# EAGLE library part MEGADRIVE-CART (library megadrive)
Megadrive cartridge interface that fits in a slot
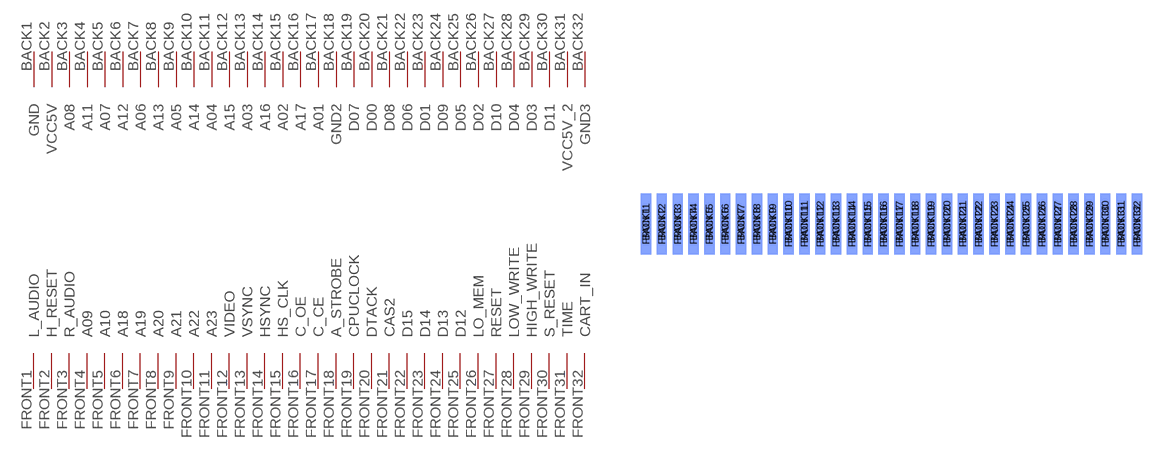
[diagram p0: symbol with the pads of MEGADRIVE-SLOT-PACKAGE; footprint MEGADRIVE-SLOT-PACKAGE]

Designator prefix MD

## MEGADRIVE-CART  [MEGADRIVE-SLOT-PACKAGE]
BACK1  GND
BACK2  VCC5V
BACK3  A08
BACK4  A11
BACK5  A07
BACK6  A12
BACK7  A06
BACK8  A13
BACK9  A05
BACK10  A14
BACK11  A04
BACK12  A15
BACK13  A03
BACK14  A16
BACK15  A02
BACK16  A17
BACK17  A01
BACK18  GND2
BACK19  D07
BACK20  D00
BACK21  D08
BACK22  D06
BACK23  D01
BACK24  D09
BACK25  D05
BACK26  D02
BACK27  D10
BACK28  D04
BACK29  D03
BACK30  D11
BACK31  VCC5V_2
BACK32  GND3
FRONT1  L_AUDIO
FRONT2  H_RESET
FRONT3  R_AUDIO
FRONT4  A09
FRONT5  A10
FRONT6  A18
FRONT7  A19
FRONT8  A20
FRONT9  A21
FRONT10  A22
FRONT11  A23
FRONT12  VIDEO
FRONT13  VSYNC
FRONT14  HSYNC
FRONT15  HS_CLK
FRONT16  C_OE
FRONT17  C_CE
FRONT18  A_STROBE
FRONT19  CPUCLOCK
FRONT20  DTACK
FRONT21  CAS2
FRONT22  D15
FRONT23  D14
FRONT24  D13
FRONT25  D12
FRONT26  LO_MEM
FRONT27  RESET
FRONT28  LOW_WRITE
FRONT29  HIGH_WRITE
FRONT30  S_RESET
FRONT31  TIME
FRONT32  CART_IN

## Footprint MEGADRIVE-SLOT-PACKAGE (pad centres in mm)
PCB connector for the MD cart
smd 1.651 x 9.779 bottom: BACK1 -39.37,5.524; BACK2 -36.83,5.524; BACK3 -34.29,5.524; BACK4 -31.75,5.524; BACK5 -29.21,5.524; BACK6 -26.67,5.524; BACK7 -24.13,5.524; BACK8 -21.59,5.524; BACK9 -19.05,5.524; BACK10 -16.51,5.524; BACK11 -13.97,5.524; BACK12 -11.43,5.524; BACK13 -8.89,5.524; BACK14 -6.35,5.524; BACK15 -3.81,5.524; BACK16 -1.27,5.524; BACK17 1.27,5.524; BACK18 3.81,5.524; BACK19 6.35,5.524; BACK20 8.89,5.524; BACK21 11.43,5.524; BACK22 13.97,5.524; BACK23 16.51,5.524; BACK24 19.05,5.524; BACK25 21.59,5.524; BACK26 24.13,5.524; BACK27 26.67,5.524; BACK28 29.21,5.524; BACK29 31.75,5.524; BACK30 34.29,5.524; BACK31 36.83,5.524; BACK32 39.37,5.524
smd 1.651 x 9.779: FRONT1 -39.37,5.524; FRONT2 -36.83,5.524; FRONT3 -34.29,5.524; FRONT4 -31.75,5.524; FRONT5 -29.21,5.524; FRONT6 -26.67,5.524; FRONT7 -24.13,5.524; FRONT8 -21.59,5.524; FRONT9 -19.05,5.524; FRONT10 -16.51,5.524; FRONT11 -13.97,5.524; FRONT12 -11.43,5.524; FRONT13 -8.89,5.524; FRONT14 -6.35,5.524; FRONT15 -3.81,5.524; FRONT16 -1.27,5.524; FRONT17 1.27,5.524; FRONT18 3.81,5.524; FRONT19 6.35,5.524; FRONT20 8.89,5.524; FRONT21 11.43,5.524; FRONT22 13.97,5.524; FRONT23 16.51,5.524; FRONT24 19.05,5.524; FRONT25 21.59,5.524; FRONT26 24.13,5.524; FRONT27 26.67,5.524; FRONT28 29.21,5.524; FRONT29 31.75,5.524; FRONT30 34.29,5.524; FRONT31 36.83,5.524; FRONT32 39.37,5.524